# Altium schematic symbol library Nick-Schematic-Lib.SchLib: 2 symbols
Pins are listed as number, name and electrical type; pins without a type are passive.

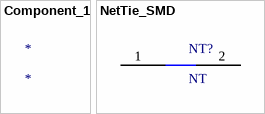
[diagram p0: symbols Component_1 to NetTie_SMD]

## Component_1
designator *

## NetTie_SMD
designator NT?, comment NT  (net tie, no BOM)
Net tie smd
footprint NETTIE_SMD
pins: 1, 2